# Altium schematic symbol library LQ_KEAP80SYSVK_sch.SCHLIB: 1 symbol
Pins are listed as number, name and electrical type; pins without a type are passive.

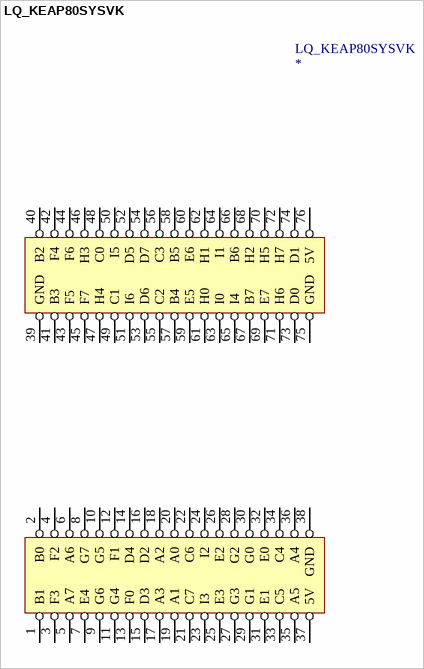
[diagram p0: symbol LQ_KEAP80SYSVK]

## LQ_KEAP80SYSVK
designator LQ_KEAP80SYSVK
LQ_KEAP80SYSVK
footprint LQ_KEAP80SYSVK
pins: 1 B1, 2 B0, 3 F3, 4 F2, 5 A7, 6 A6, 7 E4, 8 G7, 9 G6, 10 G5, 11 G4, 12 F1, 13 F0, 14 D4, 15 D3, 16 D2, 17 A3, 18 A2, 19 A1, 20 A0, 21 C7, 22 C6, 23 I3, 24 I2, 25 E3, 26 E2, 27 G3, 28 G2, 29 G1, 30 G0, 31 E1, 32 E0, 33 C5, 34 C4, 35 A5, 36 A4, 37 5V, 38 GND, 39 GND, 40 B2, 41 B3, 42 F4, 43 F5, 44 F6, 45 F7, 46 H3, 47 H4, 48 C0, 49 C1, 50 I5, 51 I6, 52 D5, 53 D6, 54 D7, 55 C2, 56 C3, 57 B4, 58 B5, 59 E5, 60 E6, 61 H0, 62 H1, 63 I0, 64 I1, 65 I4, 66 B6, 67 B7, 68 H2, 69 E7, 70 H5, 71 H6, 72 H7, 73 D0, 74 D1, 75 GND, 76 5V
text: http://longqiu.taobao.com/